# Altium integrated library Zarlink Comm Switching Matrix.IntLib: 16 symbols
Pins are listed as number, name and electrical type; pins without a type are passive.

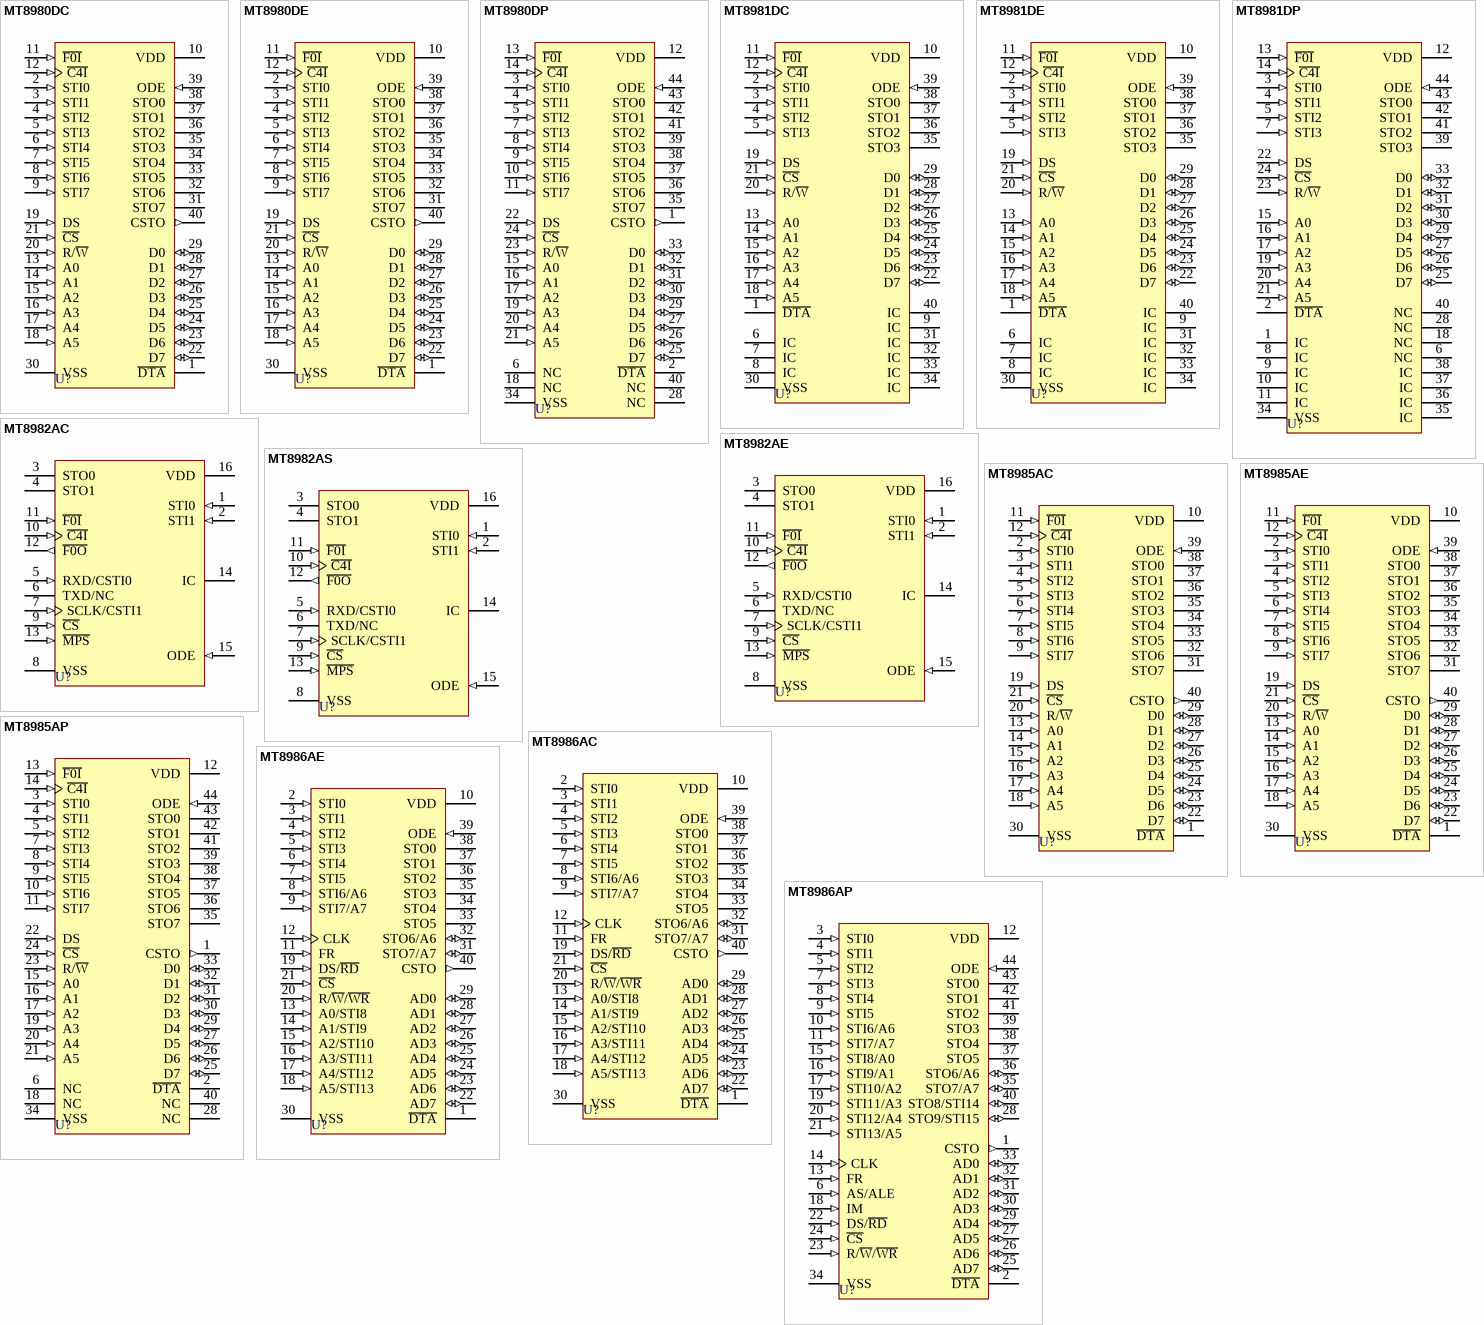
[diagram p0: symbols MT8980DC to MT8986AP]

## MT8980DC
designator U?
Digital Switch; Published: 8-Jun-2000; LatestRevisionDate: 17-Jul-2002; LatestRevisionNote: Re-released for DXP Platform.; DatasheetVersion: Issue 7 August 1996; PackageVersion: 1995; PackageReference: CDIP40; Publisher: Altium Limited; PackageDescription: DIP; 40 Leads; Row Spacing 15.24 mm; Pitch 2.54 mm; Code_JEDEC: MS-011-AC; ComponentLink1Description: Manufacturer Link; ComponentLink1URL: http://www.zarlink.com/; ComponentLink2Description: Datasheet; ComponentLink2URL: http://assets.zarlink.com/DS/zarlink_MT8980_FEB_05.pdf
footprint CDIP40 (DIP; 40 Leads; Row Spacing 15.24 mm; Pitch 2.54 mm)
pins: 1 ~{DTA} (oc), 2 STI0 (in), 3 STI1 (in), 4 STI2 (in), 5 STI3 (in), 6 STI4 (in), 7 STI5 (in), 8 STI6 (in), 9 STI7 (in), 10 VDD (power), 11 ~{F0I} (in), 12 ~{C4I} (in), 13 A0 (in), 14 A1 (in), 15 A2 (in), 16 A3 (in), 17 A4 (in), 18 A5 (in), 19 DS (in), 20 R/~{W} (in), 21 ~{CS} (in), 22 D7 (io), 23 D6 (io), 24 D5 (io), 25 D4 (io), 26 D3 (io), 27 D2 (io), 28 D1 (io), 29 D0 (io), 30 VSS (power), 31 STO7 (hiz), 32 STO6 (hiz), 33 STO5 (hiz), 34 STO4 (hiz), 35 STO3 (hiz), 36 STO2 (hiz), 37 STO1 (hiz), 38 STO0 (hiz), 39 ODE (in), 40 CSTO (out)

## MT8980DE
designator U?
Digital Switch; Published: 8-Jun-2000; LatestRevisionDate: 17-Jul-2002; LatestRevisionNote: Re-released for DXP Platform.; DatasheetVersion: Issue 8 March 1997; PackageVersion: 1997; PackageReference: PDIP40; Publisher: Altium Limited; PackageDescription: DIP; 40 Leads; Row Spacing 15.24 mm; Pitch 2.54 mm; Code_JEDEC: MS-011-AC; ComponentLink1Description: Manufacturer Link; ComponentLink1URL: http://www.zarlink.com/; ComponentLink2Description: Datasheet; ComponentLink2URL: http://assets.zarlink.com/DS/zarlink_MT8980_FEB_05.pdf
footprint PDIP40 (DIP; 40 Leads; Row Spacing 15.24 mm; Pitch 2.54 mm)
pins: 1 ~{DTA} (oc), 2 STI0 (in), 3 STI1 (in), 4 STI2 (in), 5 STI3 (in), 6 STI4 (in), 7 STI5 (in), 8 STI6 (in), 9 STI7 (in), 10 VDD (power), 11 ~{F0I} (in), 12 ~{C4I} (in), 13 A0 (in), 14 A1 (in), 15 A2 (in), 16 A3 (in), 17 A4 (in), 18 A5 (in), 19 DS (in), 20 R/~{W} (in), 21 ~{CS} (in), 22 D7 (io), 23 D6 (io), 24 D5 (io), 25 D4 (io), 26 D3 (io), 27 D2 (io), 28 D1 (io), 29 D0 (io), 30 VSS (power), 31 STO7 (hiz), 32 STO6 (hiz), 33 STO5 (hiz), 34 STO4 (hiz), 35 STO3 (hiz), 36 STO2 (hiz), 37 STO1 (hiz), 38 STO0 (hiz), 39 ODE (in), 40 CSTO (out)

## MT8980DP
designator U?
Digital Switch; Published: 8-Jun-2000; LatestRevisionDate: 13-Apr-2006; LatestRevisionNote: IPC-7351 Footprint Added.; DatasheetVersion: Issue 8 March 1997; PackageVersion: 1997; PackageReference: PLCC44; Publisher: Altium Limited; PackageDescription: 44-Pin Leaded Chip Carrier 1.27 mm Pitch; Code_IPC: PLCC-44; ComponentLink1Description: Manufacturer Link; ComponentLink1URL: http://www.zarlink.com/; ComponentLink2Description: Datasheet; ComponentLink2URL: http://assets.zarlink.com/DS/zarlink_MT8980_FEB_05.pdf
footprint PLCC44_N (Leaded Chip Carrier, 44-Leads, Body 16.6x16.6mm, Pitch 1.27mm, IPC Medium Density)
footprint PLCC44_L (Leaded Chip Carrier, 44-Leads, Body 16.6x16.6mm, Pitch 1.27mm, IPC High Density)
footprint PLCC44_M (Leaded Chip Carrier, 44-Leads, Body 16.6x16.6mm, Pitch 1.27mm, IPC Low Density)
pins: 1 CSTO (out), 2 ~{DTA} (oc), 3 STI0 (in), 4 STI1 (in), 5 STI2 (in), 6 NC, 7 STI3 (in), 8 STI4 (in), 9 STI5 (in), 10 STI6 (in), 11 STI7 (in), 12 VDD (power), 13 ~{F0I} (in), 14 ~{C4I} (in), 15 A0 (in), 16 A1 (in), 17 A2 (in), 18 NC, 19 A3 (in), 20 A4 (in), 21 A5 (in), 22 DS (in), 23 R/~{W} (in), 24 ~{CS} (in), 25 D7 (io), 26 D6 (io), 27 D5 (io), 28 NC, 29 D4 (io), 30 D3 (io), 31 D2 (io), 32 D1 (io), 33 D0 (io), 34 VSS (power), 35 STO7 (hiz), 36 STO6 (hiz), 37 STO5 (hiz), 38 STO4 (hiz), 39 STO3 (hiz), 40 NC, 41 STO2 (hiz), 42 STO1 (hiz), 43 STO0 (hiz), 44 ODE (in)

## MT8981DC
designator U?
Digital Switch; Note: IC pins 6-9 must be conneced to VDD;  Leave IC pins 31-34 and 40 disconnected.; Published: 8-Jun-2000; LatestRevisionDate: 17-Jul-2002; LatestRevisionNote: Re-released for DXP Platform.; DatasheetVersion: Issue 7 August 1996; PackageVersion: 1995; PackageReference: CDIP40; Publisher: Altium Limited; PackageDescription: DIP; 40 Leads; Row Spacing 15.24 mm; Pitch 2.54 mm; Code_JEDEC: MS-011-AC; ComponentLink1Description: Manufacturer Link; ComponentLink1URL: http://www.zarlink.com/; ComponentLink2Description: Datasheet; ComponentLink2URL: http://assets.zarlink.com/DS/zarlink_MT8981_FEB_05.pdf
footprint CDIP40 (DIP; 40 Leads; Row Spacing 15.24 mm; Pitch 2.54 mm)
pins: 1 ~{DTA} (oc), 2 STI0 (in), 3 STI1 (in), 4 STI2 (in), 5 STI3 (in), 6 IC, 7 IC, 8 IC, 9 IC, 10 VDD (power), 11 ~{F0I} (in), 12 ~{C4I} (in), 13 A0 (in), 14 A1 (in), 15 A2 (in), 16 A3 (in), 17 A4 (in), 18 A5 (in), 19 DS (in), 20 R/~{W} (in), 21 ~{CS} (in), 22 D7 (io), 23 D6 (io), 24 D5 (io), 25 D4 (io), 26 D3 (io), 27 D2 (io), 28 D1 (io), 29 D0 (io), 30 VSS (power), 31 IC, 32 IC, 33 IC, 34 IC, 35 STO3 (hiz), 36 STO2 (hiz), 37 STO1 (hiz), 38 STO0 (hiz), 39 ODE (in), 40 IC

## MT8981DE
designator U?
Digital Switch; Note: IC pins 6-9 must be conneced to VDD;  Leave IC pins 31-34 and 40 disconnected.; Published: 8-Jun-2000; LatestRevisionDate: 17-Jul-2002; LatestRevisionNote: Re-released for DXP Platform.; DatasheetVersion: Issue 8 March 1997; PackageVersion: 1997; PackageReference: PDIP40; Publisher: Altium Limited; PackageDescription: DIP; 40 Leads; Row Spacing 15.24 mm; Pitch 2.54 mm; Code_JEDEC: MS-011-AC; ComponentLink1Description: Manufacturer Link; ComponentLink1URL: http://www.zarlink.com/; ComponentLink2Description: Datasheet; ComponentLink2URL: http://assets.zarlink.com/DS/zarlink_MT8981_FEB_05.pdf
footprint PDIP40 (DIP; 40 Leads; Row Spacing 15.24 mm; Pitch 2.54 mm)
pins: 1 ~{DTA} (oc), 2 STI0 (in), 3 STI1 (in), 4 STI2 (in), 5 STI3 (in), 6 IC, 7 IC, 8 IC, 9 IC, 10 VDD (power), 11 ~{F0I} (in), 12 ~{C4I} (in), 13 A0 (in), 14 A1 (in), 15 A2 (in), 16 A3 (in), 17 A4 (in), 18 A5 (in), 19 DS (in), 20 R/~{W} (in), 21 ~{CS} (in), 22 D7 (io), 23 D6 (io), 24 D5 (io), 25 D4 (io), 26 D3 (io), 27 D2 (io), 28 D1 (io), 29 D0 (io), 30 VSS (power), 31 IC, 32 IC, 33 IC, 34 IC, 35 STO3 (hiz), 36 STO2 (hiz), 37 STO1 (hiz), 38 STO0 (hiz), 39 ODE (in), 40 IC

## MT8981DP
designator U?
Digital Switch; Note: IC pins 8-11 must be conneced to VDD;  Leave IC pins 35-38 and 1 disconnected.; Published: 8-Jun-2000; LatestRevisionDate: 13-Apr-2006; LatestRevisionNote: IPC-7351 Footprint Added.; DatasheetVersion: Issue 8 March 1997; PackageVersion: 1997; PackageReference: PLCC44; Publisher: Altium Limited; PackageDescription: 44-Pin Leaded Chip Carrier 1.27 mm Pitch; Code_IPC: PLCC-44; ComponentLink1Description: Manufacturer Link; ComponentLink1URL: http://www.zarlink.com/; ComponentLink2Description: Datasheet; ComponentLink2URL: http://assets.zarlink.com/DS/zarlink_MT8981_FEB_05.pdf
footprint PLCC44_N (Leaded Chip Carrier, 44-Leads, Body 16.6x16.6mm, Pitch 1.27mm, IPC Medium Density)
footprint PLCC44_L (Leaded Chip Carrier, 44-Leads, Body 16.6x16.6mm, Pitch 1.27mm, IPC High Density)
footprint PLCC44_M (Leaded Chip Carrier, 44-Leads, Body 16.6x16.6mm, Pitch 1.27mm, IPC Low Density)
pins: 1 IC, 2 ~{DTA} (oc), 3 STI0 (in), 4 STI1 (in), 5 STI2 (in), 6 NC, 7 STI3 (in), 8 IC, 9 IC, 10 IC, 11 IC, 12 VDD (power), 13 ~{F0I} (in), 14 ~{C4I} (in), 15 A0 (in), 16 A1 (in), 17 A2 (in), 18 NC, 19 A3 (in), 20 A4 (in), 21 A5 (in), 22 DS (in), 23 R/~{W} (in), 24 ~{CS} (in), 25 D7 (io), 26 D6 (io), 27 D5 (io), 28 NC, 29 D4 (io), 30 D3 (io), 31 D2 (io), 32 D1 (io), 33 D0 (io), 34 VSS (power), 35 IC, 36 IC, 37 IC, 38 IC, 39 STO3 (hiz), 40 NC, 41 STO2 (hiz), 42 STO1 (hiz), 43 STO0 (hiz), 44 ODE (in)

## MT8982AC
designator U?
Small Digital Switch (MiniDX); Note: Tie pin 14 to VSS for normal operation.; ComponentAvailability: Obsolete; Published: 8-Jun-2000; LatestRevisionDate: 17-Jul-2002; LatestRevisionNote: Re-released for DXP Platform.; DatasheetVersion: Issue 6 May 1995; PackageVersion: 1995; PackageReference: CDIP16; Publisher: Altium Limited; PackageDescription: DIP; 16 Leads; Row Spacing 7.62 mm; Pitch 2.54 mm; ComponentLink1Description: Manufacturer Link; ComponentLink1URL: http://www.zarlink.com/; ComponentLink2Description: Datasheet; ComponentLink2URL: http://assets.zarlink.com/DS/zarlink_MT8982_JAN_01.pdf
footprint CDIP16 (DIP; 16 Leads; Row Spacing 7.62 mm; Pitch 2.54 mm)
pins: 1 STI0 (in), 2 STI1 (in), 3 STO0 (hiz), 4 STO1 (hiz), 5 RXD/CSTI0 (in), 6 TXD/NC (hiz), 7 SCLK/CSTI1 (in), 8 VSS (power), 9 ~{CS} (in), 10 ~{C4I} (in), 11 ~{F0I} (in), 12 ~{F0O} (out), 13 ~{MPS} (in), 14 IC, 15 ODE (in), 16 VDD (power)

## MT8982AE
designator U?
Small Digital Switch (MiniDX); Note: Tie pin 14 to VSS for normal operation; ComponentAvailability: Obsolete; Published: 8-Jun-2000; LatestRevisionDate: 17-Jul-2002; LatestRevisionNote: Re-released for DXP Platform.; DatasheetVersion: Issue 6 May 1995; PackageVersion: 1997; PackageReference: PDIP16; Publisher: Altium Limited; PackageDescription: DIP; 16 Leads; Row Spacing 7.62 mm; Pitch 2.54 mm; ComponentLink1Description: Manufacturer Link; ComponentLink1URL: http://www.zarlink.com/; ComponentLink2Description: Datasheet; ComponentLink2URL: http://assets.zarlink.com/DS/zarlink_MT8982_JAN_01.pdf
footprint PDIP16 (DIP; 16 Leads; Row Spacing 7.62 mm; Pitch 2.54 mm)
pins: 1 STI0 (in), 2 STI1 (in), 3 STO0 (hiz), 4 STO1 (hiz), 5 RXD/CSTI0 (in), 6 TXD/NC (hiz), 7 SCLK/CSTI1 (in), 8 VSS (power), 9 ~{CS} (in), 10 ~{C4I} (in), 11 ~{F0I} (in), 12 ~{F0O} (out), 13 ~{MPS} (in), 14 IC, 15 ODE (in), 16 VDD (power)

## MT8982AS
designator U?
Small Digital Switch (MiniDX); Note: Tie pin 14 to VSS for normal operation; ComponentAvailability: Obsolete; Published: 8-Jun-2000; LatestRevisionDate: 13-Apr-2006; LatestRevisionNote: IPC-7351 Footprint Added.; DatasheetVersion: Issue 6 May 1995; PackageVersion: 1997; PackageReference: SOIC16; Publisher: Altium Limited; PackageDescription: 16-Pin Small Outline Integrated Circuit 1.27 mm Pitch; Code_JEDEC: MS-013-AA; Code_IPC: SOIC127P1030-16; ComponentLink1Description: Manufacturer Link; ComponentLink1URL: http://www.zarlink.com/; ComponentLink2Description: Datasheet; ComponentLink2URL: http://assets.zarlink.com/DS/zarlink_MT8982_JAN_01.pdf
footprint SOIC16_N (SOIC, 16-Leads, Body 10.3x7.6mm, Pitch 1.27mm, IPC Medium Density)
footprint SOIC16_L (SOIC, 16-Leads, Body 10.3x7.6mm, Pitch 1.27mm, IPC High Density)
footprint SOIC16_M (SOIC, 16-Leads, Body 10.3x7.6mm, Pitch 1.27mm, IPC Low Density)
pins: 1 STI0 (in), 2 STI1 (in), 3 STO0 (hiz), 4 STO1 (hiz), 5 RXD/CSTI0 (in), 6 TXD/NC (hiz), 7 SCLK/CSTI1 (in), 8 VSS (power), 9 ~{CS} (in), 10 ~{C4I} (in), 11 ~{F0I} (in), 12 ~{F0O} (out), 13 ~{MPS} (in), 14 IC, 15 ODE (in), 16 VDD (power)

## MT8985AC
designator U?
Enhanced Digital Switch; Published: 8-Jun-2000; LatestRevisionDate: 17-Jul-2002; LatestRevisionNote: Re-released for DXP Platform.; DatasheetVersion: Issue 4 May 1995; PackageVersion: 1995; PackageReference: CDIP40; Publisher: Altium Limited; PackageDescription: DIP; 40 Leads; Row Spacing 15.24 mm; Pitch 2.54 mm; Code_JEDEC: MS-011-AC; ComponentLink1Description: Manufacturer Link; ComponentLink1URL: http://www.zarlink.com/; ComponentLink2Description: Datasheet; ComponentLink2URL: http://assets.zarlink.com/DS/zarlink_MT8985_MAY_05.pdf
footprint CDIP40 (DIP; 40 Leads; Row Spacing 15.24 mm; Pitch 2.54 mm)
pins: 1 ~{DTA} (oc), 2 STI0 (in), 3 STI1 (in), 4 STI2 (in), 5 STI3 (in), 6 STI4 (in), 7 STI5 (in), 8 STI6 (in), 9 STI7 (in), 10 VDD (power), 11 ~{F0I} (in), 12 ~{C4I} (in), 13 A0 (in), 14 A1 (in), 15 A2 (in), 16 A3 (in), 17 A4 (in), 18 A5 (in), 19 DS (in), 20 R/~{W} (in), 21 ~{CS} (in), 22 D7 (io), 23 D6 (io), 24 D5 (io), 25 D4 (io), 26 D3 (io), 27 D2 (io), 28 D1 (io), 29 D0 (io), 30 VSS (power), 31 STO7 (hiz), 32 STO6 (hiz), 33 STO5 (hiz), 34 STO4 (hiz), 35 STO3 (hiz), 36 STO2 (hiz), 37 STO1 (hiz), 38 STO0 (hiz), 39 ODE (in), 40 CSTO (out)

## MT8985AE
designator U?
Enhanced Digital Switch; Published: 8-Jun-2000; LatestRevisionDate: 17-Jul-2002; LatestRevisionNote: Re-released for DXP Platform.; DatasheetVersion: Issue 5 March 1997; PackageVersion: 1997; PackageReference: PDIP40; Publisher: Altium Limited; PackageDescription: DIP; 40 Leads; Row Spacing 15.24 mm; Pitch 2.54 mm; Code_JEDEC: MS-011-AC; ComponentLink1Description: Manufacturer Link; ComponentLink1URL: http://www.zarlink.com/; ComponentLink2Description: Datasheet; ComponentLink2URL: http://assets.zarlink.com/DS/zarlink_MT8985_MAY_05.pdf
footprint PDIP40 (DIP; 40 Leads; Row Spacing 15.24 mm; Pitch 2.54 mm)
pins: 1 ~{DTA} (oc), 2 STI0 (in), 3 STI1 (in), 4 STI2 (in), 5 STI3 (in), 6 STI4 (in), 7 STI5 (in), 8 STI6 (in), 9 STI7 (in), 10 VDD (power), 11 ~{F0I} (in), 12 ~{C4I} (in), 13 A0 (in), 14 A1 (in), 15 A2 (in), 16 A3 (in), 17 A4 (in), 18 A5 (in), 19 DS (in), 20 R/~{W} (in), 21 ~{CS} (in), 22 D7 (io), 23 D6 (io), 24 D5 (io), 25 D4 (io), 26 D3 (io), 27 D2 (io), 28 D1 (io), 29 D0 (io), 30 VSS (power), 31 STO7 (hiz), 32 STO6 (hiz), 33 STO5 (hiz), 34 STO4 (hiz), 35 STO3 (hiz), 36 STO2 (hiz), 37 STO1 (hiz), 38 STO0 (hiz), 39 ODE (in), 40 CSTO (out)

## MT8985AP
designator U?
Enhanced Digital Switch; Published: 8-Jun-2000; LatestRevisionDate: 13-Apr-2006; LatestRevisionNote: IPC-7351 Footprint Added.; DatasheetVersion: Issue 5 March 1997; PackageVersion: 1997; PackageReference: PLCC44; Publisher: Altium Limited; PackageDescription: 44-Pin Leaded Chip Carrier 1.27 mm Pitch; Code_IPC: PLCC-44; ComponentLink1Description: Manufacturer Link; ComponentLink1URL: http://www.zarlink.com/; ComponentLink2Description: Datasheet; ComponentLink2URL: http://assets.zarlink.com/DS/zarlink_MT8985_MAY_05.pdf
footprint PLCC44_N (Leaded Chip Carrier, 44-Leads, Body 16.6x16.6mm, Pitch 1.27mm, IPC Medium Density)
footprint PLCC44_L (Leaded Chip Carrier, 44-Leads, Body 16.6x16.6mm, Pitch 1.27mm, IPC High Density)
footprint PLCC44_M (Leaded Chip Carrier, 44-Leads, Body 16.6x16.6mm, Pitch 1.27mm, IPC Low Density)
pins: 1 CSTO (out), 2 ~{DTA} (oc), 3 STI0 (in), 4 STI1 (in), 5 STI2 (in), 6 NC, 7 STI3 (in), 8 STI4 (in), 9 STI5 (in), 10 STI6 (in), 11 STI7 (in), 12 VDD (power), 13 ~{F0I} (in), 14 ~{C4I} (in), 15 A0 (in), 16 A1 (in), 17 A2 (in), 18 NC, 19 A3 (in), 20 A4 (in), 21 A5 (in), 22 DS (in), 23 R/~{W} (in), 24 ~{CS} (in), 25 D7 (io), 26 D6 (io), 27 D5 (io), 28 NC, 29 D4 (io), 30 D3 (io), 31 D2 (io), 32 D1 (io), 33 D0 (io), 34 VSS (power), 35 STO7 (hiz), 36 STO6 (hiz), 37 STO5 (hiz), 38 STO4 (hiz), 39 STO3 (hiz), 40 NC, 41 STO2 (hiz), 42 STO1 (hiz), 43 STO0 (hiz), 44 ODE (in)

## MT8986AC
designator U?
Multiple Rate Digital Switch; Published: 8-Jun-2000; LatestRevisionDate: 17-Jul-2002; LatestRevisionNote: Re-released for DXP Platform.; DatasheetVersion: Issue 3 May 1995; PackageVersion: 1995; PackageReference: CDIP40; Publisher: Altium Limited; PackageDescription: DIP; 40 Leads; Row Spacing 15.24 mm; Pitch 2.54 mm; Code_JEDEC: MS-011-AC; ComponentLink1Description: Manufacturer Link; ComponentLink1URL: http://www.zarlink.com/; ComponentLink2Description: Datasheet; ComponentLink2URL: http://assets.zarlink.com/DS/zarlink_MT8986_FEB_05.pdf
footprint CDIP40 (DIP; 40 Leads; Row Spacing 15.24 mm; Pitch 2.54 mm)
pins: 1 ~{DTA} (oc), 2 STI0 (in), 3 STI1 (in), 4 STI2 (in), 5 STI3 (in), 6 STI4 (in), 7 STI5 (in), 8 STI6/A6 (in), 9 STI7/A7 (in), 10 VDD (power), 11 FR (in), 12 CLK (in), 13 A0/STI8 (in), 14 A1/STI9 (in), 15 A2/STI10 (in), 16 A3/STI11 (in), 17 A4/STI12 (in), 18 A5/STI13 (in), 19 DS/~{RD} (in), 20 R/~{W}/~{WR} (in), 21 ~{CS} (in), 22 AD7 (io), 23 AD6 (io), 24 AD5 (io), 25 AD4 (io), 26 AD3 (io), 27 AD2 (io), 28 AD1 (io), 29 AD0 (io), 30 VSS (power), 31 STO7/A7 (io), 32 STO6/A6 (io), 33 STO5 (hiz), 34 STO4 (hiz), 35 STO3 (hiz), 36 STO2 (hiz), 37 STO1 (hiz), 38 STO0 (hiz), 39 ODE (in), 40 CSTO (out)

## MT8986AE
designator U?
Multiple Rate Digital Switch; Published: 8-Jun-2000; LatestRevisionDate: 17-Jul-2002; LatestRevisionNote: Re-released for DXP Platform.; DatasheetVersion: Issue 4 March 1997; PackageVersion: 1997; PackageReference: PDIP40; Publisher: Altium Limited; PackageDescription: DIP; 40 Leads; Row Spacing 15.24 mm; Pitch 2.54 mm; Code_JEDEC: MS-011-AC; ComponentLink1Description: Manufacturer Link; ComponentLink1URL: http://www.zarlink.com/; ComponentLink2Description: Datasheet; ComponentLink2URL: http://assets.zarlink.com/DS/zarlink_MT8986_FEB_05.pdf
footprint PDIP40 (DIP; 40 Leads; Row Spacing 15.24 mm; Pitch 2.54 mm)
pins: 1 ~{DTA} (oc), 2 STI0 (in), 3 STI1 (in), 4 STI2 (in), 5 STI3 (in), 6 STI4 (in), 7 STI5 (in), 8 STI6/A6 (in), 9 STI7/A7 (in), 10 VDD (power), 11 FR (in), 12 CLK (in), 13 A0/STI8 (in), 14 A1/STI9 (in), 15 A2/STI10 (in), 16 A3/STI11 (in), 17 A4/STI12 (in), 18 A5/STI13 (in), 19 DS/~{RD} (in), 20 R/~{W}/~{WR} (in), 21 ~{CS} (in), 22 AD7 (io), 23 AD6 (io), 24 AD5 (io), 25 AD4 (io), 26 AD3 (io), 27 AD2 (io), 28 AD1 (io), 29 AD0 (io), 30 VSS (power), 31 STO7/A7 (io), 32 STO6/A6 (io), 33 STO5 (hiz), 34 STO4 (hiz), 35 STO3 (hiz), 36 STO2 (hiz), 37 STO1 (hiz), 38 STO0 (hiz), 39 ODE (in), 40 CSTO (out)

## MT8986AP
designator U?
Multiple Rate Digital Switch; Published: 8-Jun-2000; LatestRevisionDate: 13-Apr-2006; LatestRevisionNote: IPC-7351 Footprint Added.; DatasheetVersion: Issue 4 March 1997; PackageVersion: 1997; PackageReference: PLCC44; Publisher: Altium Limited; PackageDescription: 44-Pin Leaded Chip Carrier 1.27 mm Pitch; Code_IPC: PLCC-44; ComponentLink1Description: Manufacturer Link; ComponentLink1URL: http://www.zarlink.com/; ComponentLink2Description: Datasheet; ComponentLink2URL: http://assets.zarlink.com/DS/zarlink_MT8986_FEB_05.pdf
footprint PLCC44_N (Leaded Chip Carrier, 44-Leads, Body 16.6x16.6mm, Pitch 1.27mm, IPC Medium Density)
footprint PLCC44_L (Leaded Chip Carrier, 44-Leads, Body 16.6x16.6mm, Pitch 1.27mm, IPC High Density)
footprint PLCC44_M (Leaded Chip Carrier, 44-Leads, Body 16.6x16.6mm, Pitch 1.27mm, IPC Low Density)
pins: 1 CSTO (out), 2 ~{DTA} (oc), 3 STI0 (in), 4 STI1 (in), 5 STI2 (in), 6 AS/ALE (in), 7 STI3 (in), 8 STI4 (in), 9 STI5 (in), 10 STI6/A6 (in), 11 STI7/A7 (in), 12 VDD (power), 13 FR (in), 14 CLK (in), 15 STI8/A0 (in), 16 STI9/A1 (in), 17 STI10/A2 (in), 18 IM (in), 19 STI11/A3 (in), 20 STI12/A4 (in), 21 STI13/A5 (in), 22 DS/~{RD} (in), 23 R/~{W}/~{WR} (in), 24 ~{CS} (in), 25 AD7 (io), 26 AD6 (io), 27 AD5 (io), 28 STO9/STI15 (io), 29 AD4 (io), 30 AD3 (io), 31 AD2 (io), 32 AD1 (io), 33 AD0 (io), 34 VSS (power), 35 STO7/A7 (io), 36 STO6/A6 (io), 37 STO5 (hiz), 38 STO4 (hiz), 39 STO3 (hiz), 40 STO8/STI14 (io), 41 STO2 (hiz), 42 STO1 (hiz), 43 STO0 (hiz), 44 ODE (in)

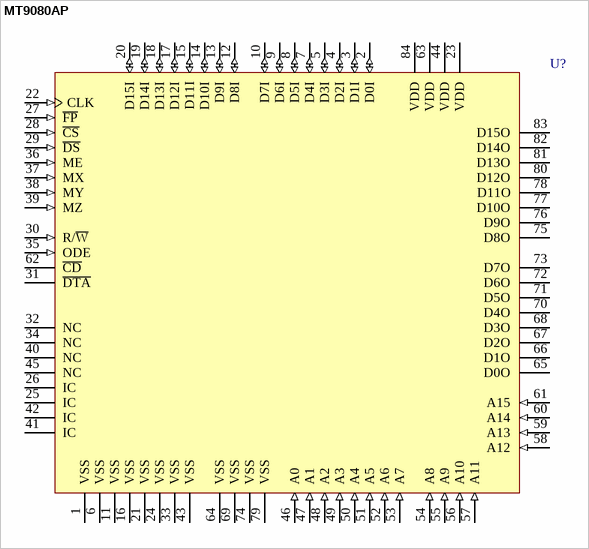
[diagram p1: symbol MT9080AP]

## MT9080AP
designator U?
SMX-Switch Matrix Module; Note: Tie pins 25 and 26 to VSS for normal operation;leave pins 41 and 42 open for noramal operation.; Published: 8-Jun-2000; LatestRevisionDate: 13-Apr-2006; LatestRevisionNote: IPC-7351 Footprint Added.; DatasheetVersion: Issue 3 January 1993; PackageVersion: 1997; PackageReference: PLCC84; Publisher: Altium Limited; PackageDescription: 84-Pin Leaded Chip Carrier 1.27 mm Pitch; Code_IPC: PLCC-84; ComponentLink1Description: Manufacturer Link; ComponentLink1URL: http://www.zarlink.com/
footprint PLCC84_N (Leaded Chip Carrier, 84-Leads, Body 29.3x29.3mm, Pitch 1.27mm, IPC Medium Density)
footprint PLCC84_L (Leaded Chip Carrier, 84-Leads, Body 29.3x29.3mm, Pitch 1.27mm, IPC High Density)
footprint PLCC84_M (Leaded Chip Carrier, 84-Leads, Body 29.3x29.3mm, Pitch 1.27mm, IPC Low Density)
pins: 1 VSS (power), 2 D0I (io), 3 D1I (io), 4 D2I (io), 5 D3I (io), 6 VSS (power), 7 D4I (io), 8 D5I (io), 9 D6I (io), 10 D7I (io), 11 VSS (power), 12 D8I (io), 13 D9I (io), 14 D10I (io), 15 D11I (io), 16 VSS (power), 17 D12I (io), 18 D13I (io), 19 D14I (io), 20 D15I (io), 21 VSS (power), 22 CLK (in), 23 VDD (power), 24 VSS (power), 25 IC, 26 IC, 27 ~{FP} (in), 28 ~{CS} (in), 29 ~{DS} (in), 30 R/~{W} (in), 31 ~{DTA} (oc), 32 NC, 33 VSS (power), 34 NC, 35 ODE (in), 36 ME (in), 37 MX (in), 38 MY (in), 39 MZ (in), 40 NC, 41 IC, 42 IC, 43 VSS (power), 44 VDD (power), 45 NC, 46 A0 (in), 47 A1 (in), 48 A2 (in), 49 A3 (in), 50 A4 (in), 51 A5 (in), 52 A6 (in), 53 A7 (in), 54 A8 (in), 55 A9 (in), 56 A10 (in), 57 A11 (in), 58 A12 (in), 59 A13 (in), 60 A14 (in), 61 A15 (in), 62 ~{CD} (oc), 63 VDD (power), 64 VSS (power), 65 D0O (hiz), 66 D1O (hiz), 67 D2O (hiz), 68 D3O (hiz), 69 VSS (power), 70 D4O (hiz), 71 D5O (hiz), 72 D6O (hiz), 73 D7O (hiz), 74 VSS (power), 75 D8O (hiz), 76 D9O (hiz), 77 D10O (hiz), 78 D11O (hiz), 79 VSS (power), 80 D12O (hiz), 81 D13O (hiz), 82 D14O (hiz), 83 D15O (hiz), 84 VDD (power)